# EAGLE library part 350762-4 (library con-amp)
Universal MATE-N-LOK .250" Centerline, 600 V, 19 - 36 A max Source: http://catalog.tycoelectronics.com/ .. ENG_CD_350762_N.pdf
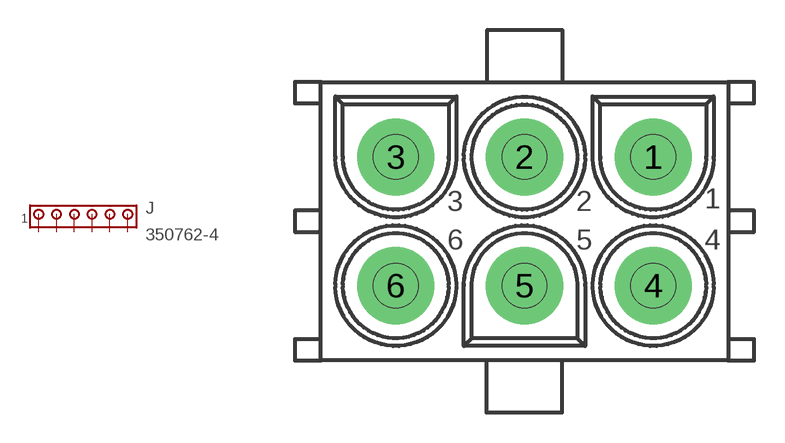
[diagram p175: symbol with the pads of 350762-4; footprint 350762-4]

Designator prefix J

## 350762-4  [350762-4]
1  1  pas
2  2  pas
3  3  pas
4  4  pas
5  5  pas
6  6  pas

## Footprint 350762-4 (pad centres in mm)
Universal MATE-N-LOK .250" Centerline, 600 V, 19 - 36 A max Source: http://catalog.tycoelectronics.com/ .. ENG_CD_350762_N.pdf
drill 1.8 pad 3.81: 1 6.35,3.175; 2 0,3.175; 3 -6.35,3.175; 4 6.35,-3.175; 5 0,-3.175; 6 -6.35,-3.175